# Altium schematic symbol library Common.SchLib: 3 symbols
Pins are listed as number, name and electrical type; pins without a type are passive.

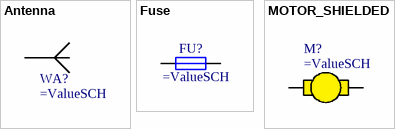
[diagram p0: symbols Antenna to MOTOR_SHIELDED]

## Antenna
designator WA?
pins: 1

## Fuse
designator FU?
pins: 1, 2

## MOTOR_SHIELDED
designator M?
pins: 1, 2, SHLD hidden to GND